# EAGLE library part AD5453YRMZ-REEL7 (library PARTS 2)
14-Bit High Bandwidth Multiplying DACs with Serial Interface
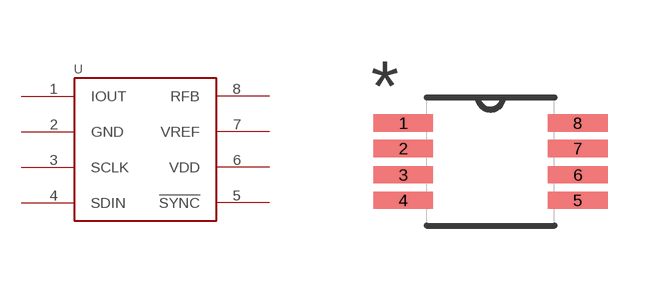
[diagram p3: symbol with the pads of SOP65P490X110-8N; footprint SOP65P490X110-8N]

Designator prefix U

## AD5453YRMZ-REEL7 (MPN: AD5453YRMZ-REEL7; OC_FARNELL: -; OC_NEWARK: 45P6460; PACKAGE: MSOP-8; SUPPLIER: Analog Devices)  [SOP65P490X110-8N]
1  IOUT  out
2  GND  pas
3  SCLK  in
4  SDIN  in
5  !SYNC  in
6  VDD  pwr
7  VREF  in
8  RFB  pas

## Footprint SOP65P490X110-8N (pad centres in mm)
smd 1.499 x 0.432: 1 -2.184,0.965; 2 -2.184,0.33; 3 -2.184,-0.33; 4 -2.184,-0.965; 5 2.184,-0.965; 6 2.184,-0.33; 7 2.184,0.33; 8 2.184,0.965